# EAGLE library part AD595 (library ad)
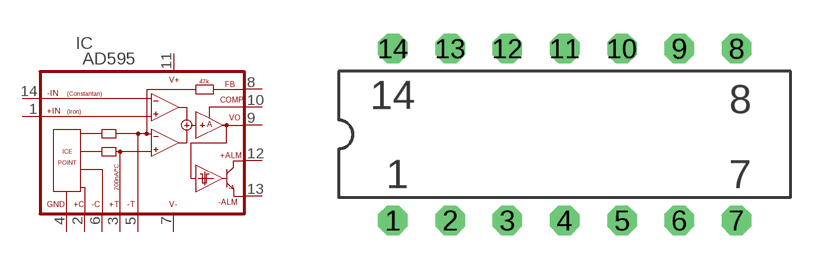
[diagram p0: symbol with the pads of DIL14; footprint DIL14]

Designator prefix IC

## AD595  [DIL14]
1  +IN  in
2  +C  pas
3  +T  pas
4  GND  pwr
5  -T  pas
6  -C  pas
7  V-  pwr
8  FB  pas
9  VO  out
10  COMP  pas
11  V+  pwr
12  +ALM  oc
13  -ALM  pas
14  -IN  in

## Footprint DIL14 (pad centres in mm)
drill 0.8 octagon: 1 -7.62,-3.81
drill 0.8 pad 1.27 octagon: 2 -5.08,-3.81; 3 -2.54,-3.81; 4 0,-3.81; 5 2.54,-3.81; 6 5.08,-3.81; 7 7.62,-3.81; 8 7.62,3.81; 9 5.08,3.81; 10 2.54,3.81; 11 0,3.81; 12 -2.54,3.81; 13 -5.08,3.81; 14 -7.62,3.81